# Altium schematic symbol library Schlib.SchLib: 39 symbols
Pins are listed as number, name and electrical type; pins without a type are passive.

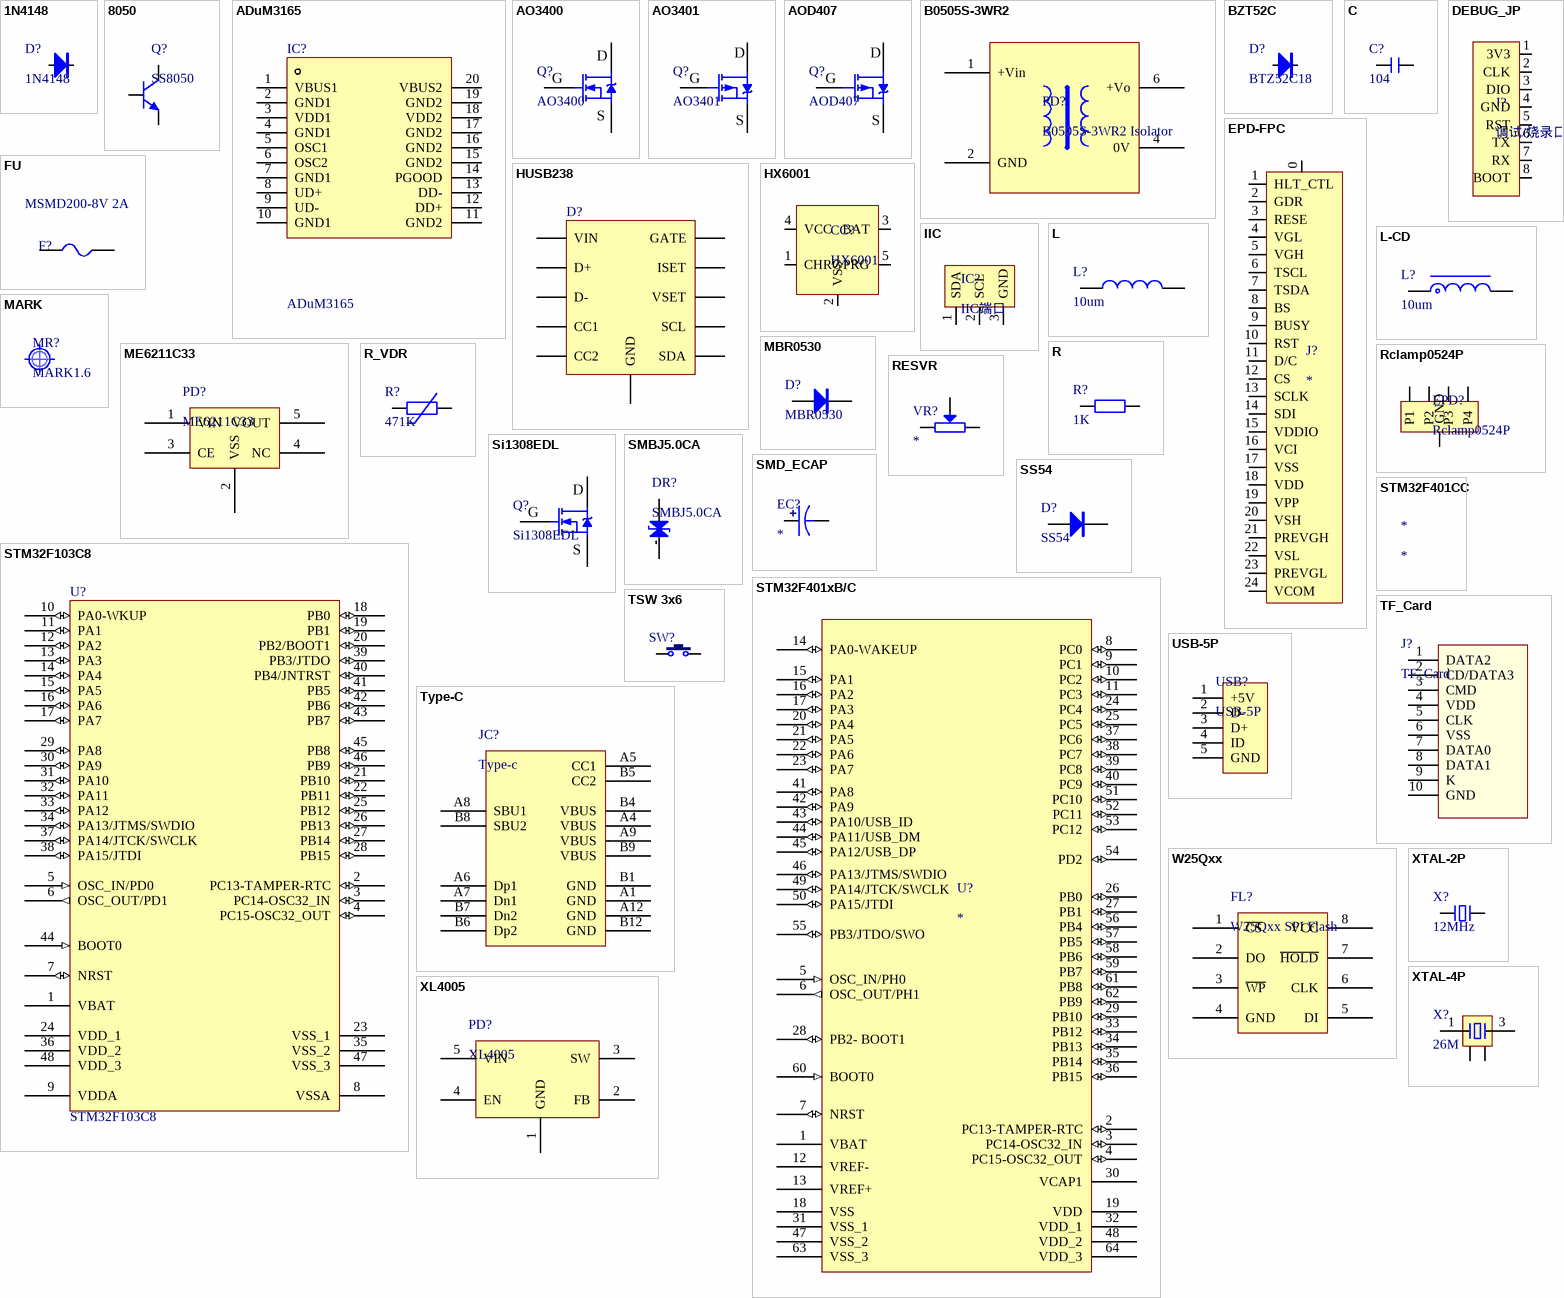
[diagram p0: symbols 1N4148 to XTAL-4P]

## 1N4148
designator D?
开关二极管; BOM名称: 肖特基二极管; 版权归属: 源创客; 属性: 40V/3A; 学习资源: www.ooocke.com
footprint SOD-123 (2.7x1.6X1.1mm（长宽高，不包括引脚）)
pins: 1 A, 2 K

## 8050
designator Q?, comment SS8050
高频放大三极管-NPN型; BOM名称: 高频放大-NPN型; 版权归属: 源创客; 属性: 40V 1.5A 1W 100MHZ; 学习资源: www.ooocke.com
footprint SOT23
pins: 1 B, 2 C, 3 E

## ADuM3165
designator IC?
3.75kV RMS Digital Isolators for USB2.0 High Speed
footprint SSOP20 (7.2*7.8*1.6mm（蒜米工坊）)
pins: 1 VBUS1, 2 GND1, 3 VDD1, 4 GND1, 5 OSC1, 6 OSC2, 7 GND1, 8 UD+, 9 UD-, 10 GND1, 11 GND2, 12 DD+, 13 DD-, 14 PGOOD, 15 GND2, 16 GND2, 17 GND2, 18 VDD2, 19 GND2, 20 VBUS2

## AO3400
designator Q?
N沟增强型道场效应管; BOM名称: N沟道场效应管; 版权归属: 源创客; 学习资源: www.ooocke.com
footprint SOT23 (Footprint not found)
pins: 1 G, 2 D, 3 S

## AO3401
designator Q?
P沟增强型场效应管; BOM名称: P沟场效应管; 版权归属: 源创客; 学习资源: www.ooocke.com
footprint SOT23
pins: 1 G, 2 D, 3 S

## AOD407
designator Q?
P沟增强型场效应管_60V12A_Vgs=20V; BOM名称: P沟场效应管; 版权归属: 源创客; 学习资源: www.ooocke.com
footprint TO252 (252晶体管)
pins: 1 G, 2 D, 3 S

## B0505S-3WR2
designator PD?, comment B0505S-3WR2 Isolator
K-CUT 05v - 05v power isolator
footprint B0505S-3WR2 K-CUT (power isolator module)
pins: 1 +Vin, 2 GND, 4 0V, 6 +Vo

## BZT52C
designator D?, comment BTZ52C18
稳压二极管; BOM名称: 肖特基二极管; 版权归属: 源创客; 属性: 40V/3A; 学习资源: www.ooocke.com
footprint SOD-123 (2.7x1.6X1.1mm（长宽高，不包括引脚）)
pins: 1 A, 2 K

## C
designator C?, comment 104
无极性贴片电容; 版权归属: 源创客; BOM名称: 无极性贴片电容; 学习资源: www.ooocke.com
footprint 0402
footprint 0603
footprint 0805
footprint 1206R
pins: 1, 2

## DEBUG_JP
designator J?, comment 调试/烧录口  (mechanical)
footprint DEBUG_JP (1.27mm间距)
pins: 1 3V3, 2 CLK, 3 DIO, 4 GND, 5 RST, 6 TX, 7 RX, 8 BOOT

## EPD-FPC
designator J?
footprint FPC0.5 2H-WS-24P (长：16.2mm，宽：5.2mm，高：2mm)
pins: 0, 1 HLT_CTL, 2 GDR, 3 RESE, 4 VGL, 5 VGH, 6 TSCL, 7 TSDA, 8 BS, 9 BUSY, 10 RST, 11 D/C, 12 CS, 13 SCLK, 14 SDI, 15 VDDIO, 16 VCI, 17 VSS, 18 VDD, 19 VPP, 20 VSH, 21 PREVGH, 22 VSL, 23 PREVGL, 24 VCOM

## FU
designator F?, comment MSMD200-8V 2A
贴片保险丝; 版权归属: 源创客; BOM名称: 贴片保险丝; 学习资源: www.ooocke.com
footprint FU 1206 (贴片保险丝)
pins: 1, 2

## HUSB238
designator D?  (value not drawn)
The HUSB238 is compatible with PD3.0 and Type-C / V1.4, and it can also support Apple Divider 3, BC1.2 / SDP, CDP and DCP while the source is attached.
footprint VDFN3X3-10L (3mm*3mm*0.5mm(长*宽*脚距）)
pins: 1 VIN, 2 D+, 3 D-, 4 CC1, 5 CC2, 6 SDA, 7 SCL, 8 VSET, 9 ISET, 10 GATE, 11 GND

## HX6001
designator CC?
HX6001(UN8HX)锂电池充电管理IC
footprint SOT23-5
pins: 1 CHRG, 2 VSS, 3 BAT, 4 VCC, 5 PRG

## IIC
designator IC?, comment IIC端口  (mechanical)
IIC端口，用于iic配置
footprint IIC_Port - duplicate (iic配置端口)
pins: 1 SDA, 2 SCL, 3 GND

## L
designator L?, comment 10um
小功率贴片电感; 版权归属: 源创客; BOM名称: 小功率贴片电感; 学习资源: www.ooocke.com
footprint 0402
footprint 0603
footprint 0805
pins: 1, 2

## L-CD
designator L?, comment 10um
贴片功率电感; BOM名称: 功率电感; 版权归属: 源创客; 学习资源: www.ooocke.com
footprint CD32 (3.5*3*2mm（长宽高）)
footprint CD42 (4.5*4*2mm（长宽高）)
footprint CDRH124 (12*12*4.5mm（长宽高）)
footprint CDRH125 (12*12*5mm（长宽高）)
footprint CDRH127 (12*12*8mm（长宽高）)
footprint CDRH129 (12*12*9.5mm（长宽高）)
footprint CD43 (4.5*4*3.2mm（长宽高）)
pins: 1, 2

## MARK
designator MR?, comment MARK1.6
光学定位点; 版权归属: 源创客; BOM名称: 光学定位点; 学习资源: www.ooocke.com
footprint Mark 1 (光学定位点，直径1mm)
footprint Mark 1.6 (光学定位点，直径1.6mm)

## MBR0530
designator D?
肖特基二极管; BOM名称: 整流二极管; 版权归属: 源创客; 学习资源: www.ooocke.com
footprint SOD-123 (2.7x1.6X1.1mm（长宽高，不包括引脚）)
pins: 1 A, 2 K

## ME6211C33
designator PD?
ME6211C33 3.3v线性LDO
footprint SOT23-5
pins: 1 VIN, 2 VSS, 3 CE, 4 NC, 5 VOUT

## R
designator R?, comment 1K
贴片电阻; 版权归属: 源创客; BOM名称: 贴片电阻; 学习资源: www.ooocke.com
footprint 0402
footprint 0603
footprint 0805
pins: 1, 2

## R_VDR
designator R?, comment 471K
压敏电阻; 版权归属: 源创客; BOM名称: 压敏电阻; 学习资源: www.ooocke.com
footprint 1206R
pins: 1, 2

## Rclamp0524P
designator EPD?
Rclamp0524P  Ultra Low Capacitance TVS Arrays
footprint SLP2510P8 (ESD TVS-Arrays Supplier specified)
pins: 1 P1, 2 P2, 3 GND, 4 P3, 5 P4

## RESVR
designator VR?
footprint 微调卧式蓝白电位器
footprint RM065 (蓝白可调电位器)
pins: 1, 2, 2

## Si1308EDL
designator Q?
N沟道场效应管; 版权归属: 源创客; BOM名称: N沟道场效应管; 学习资源: www.ooocke.com
footprint SOT323
pins: 1 S, 2 G, 3 D

## SMBJ5.0CA
designator DR?
瞬态电压抑制二极管; 版权归属: 源创客; BOM名称: 瞬态电压抑制二极管; 学习资源: www.ooocke.com
footprint SMB (4.7*3.9*2.2mm(长宽高，不包括引脚）)
pins: 1 A, 2 K

## SMD_ECAP
designator EC?
贴片电解电容
footprint SMD-EC3.0X3.3X5.4
footprint SMD-EC4.0X4.3X5.4
footprint SMD-EC5.0X5.3X5.4
footprint SMD-EC6.3X6.3X10
footprint SMD-EC8X8X10
footprint SMD-EC10X10X10
footprint SMD-EC-F12.5
footprint SMD-EC-F16
pins: 1, 2

## SS54
designator D?
肖特基二极管; BOM名称: 整流二极管; 版权归属: 源创客; 学习资源: www.ooocke.com
footprint SMA/DO-214AC (4.5x2.6*2.2mm（长宽高，不包括引脚）)
pins: 1 A, 2 K

## STM32F103C8
designator U?
Flaah:64/RAM:20/IO:36; BOM名称: 32位STM单片机; 版权归属: 源创客; 学习资源: www.ooocke.com
footprint LQFP48 7X7_N (48脚，体宽7x7mm，脚距0.5mm)
pins: 1 VBAT (power), 2 PC13-TAMPER-RTC (io), 3 PC14-OSC32_IN (io), 4 PC15-OSC32_OUT (io), 5 OSC_IN/PD0 (in), 6 OSC_OUT/PD1 (out), 7 NRST (io), 8 VSSA (power), 9 VDDA (power), 10 PA0-WKUP (io), 11 PA1 (io), 12 PA2 (io), 13 PA3 (io), 14 PA4 (io), 15 PA5 (io), 16 PA6 (io), 17 PA7 (io), 18 PB0 (io), 19 PB1 (io), 20 PB2/BOOT1 (io), 21 PB10 (io), 22 PB11 (io), 23 VSS_1 (power), 24 VDD_1 (power), 25 PB12 (io), 26 PB13 (io), 27 PB14 (io), 28 PB15 (io), 29 PA8 (io), 30 PA9 (io), 31 PA10 (io), 32 PA11 (io), 33 PA12 (io), 34 PA13/JTMS/SWDIO (io), 35 VSS_2 (power), 36 VDD_2 (power), 37 PA14/JTCK/SWCLK (io), 38 PA15/JTDI (io), 39 PB3/JTDO (io), 40 PB4/JNTRST (io), 41 PB5 (io), 42 PB6 (io), 43 PB7 (io), 44 BOOT0 (in), 45 PB8 (io), 46 PB9 (io), 47 VSS_3 (power), 48 VDD_3 (power)

## STM32F401CC
designator *

## STM32F401xB/C
designator U?
STM32F401xB/C 64pin
footprint LQFP64 10x10_N (64脚，体宽10x10mm，脚距0.5mm)
pins: 1 VBAT (power), 2 PC13-TAMPER-RTC (io), 3 PC14-OSC32_IN (io), 4 PC15-OSC32_OUT (io), 5 OSC_IN/PH0 (in), 6 OSC_OUT/PH1 (out), 7 NRST (io), 8 PC0 (io), 9 PC1 (io), 10 PC2 (io), 11 PC3 (io), 12 VREF- (power), 13 VREF+ (power), 14 PA0-WAKEUP (io), 15 PA1 (io), 16 PA2 (io), 17 PA3 (io), 18 VSS (power), 19 VDD (power), 20 PA4 (io), 21 PA5 (io), 22 PA6 (io), 23 PA7 (io), 24 PC4 (io), 25 PC5 (io), 26 PB0 (io), 27 PB1 (io), 28 PB2- BOOT1 (io), 29 PB10 (io), 30 VCAP1 (power), 31 VSS_1 (power), 32 VDD_1 (power), 33 PB12 (io), 34 PB13 (io), 35 PB14 (io), 36 PB15 (io), 37 PC6 (io), 38 PC7 (io), 39 PC8 (io), 40 PC9 (io), 41 PA8 (io), 42 PA9 (io), 43 PA10/USB_ID (io), 44 PA11/USB_DM (io), 45 PA12/USB_DP (io), 46 PA13/JTMS/SWDIO (io), 47 VSS_2 (power), 48 VDD_2 (power), 49 PA14/JTCK/SWCLK (io), 50 PA15/JTDI (io), 51 PC10 (io), 52 PC11 (io), 53 PC12 (io), 54 PD2 (io), 55 PB3/JTDO/SWO (io), 56 PB4 (io), 57 PB5 (io), 58 PB6 (io), 59 PB7 (io), 60 BOOT0 (in), 61 PB8 (io), 62 PB9 (io), 63 VSS_3 (power), 64 VDD_3 (power)

## TF_Card
designator J?
TF卡座; 版权归属: 源创客; BOM名称: TF卡座; 学习资源: www.ooocke.com
footprint Micro SD
pins: 1 DATA2, 2 CD/DATA3, 3 CMD, 4 VDD, 5 CLK, 6 VSS, 7 DATA0, 8 DATA1, 9 K, 10 GND

## TSW 3x6
designator SW?, comment 3x6x5  (value not drawn)
3x6轻触开关; 版权归属: 源创客; BOM名称: 3x6轻触开关; 学习资源: www.ooocke.com
footprint TSW SMD-3*6*2.5 (3*6*2.5mm)
pins: 1, 2

## Type-C
designator JC?, comment Type-c
footprint TYPE-C-SMD_TYPE-C-31-M-41 (HANDE TYPE-C 16P)
pins: A1 GND, A4 VBUS, A5 CC1, A6 Dp1, A7 Dn1, A8 SBU1, A9 VBUS, A12 GND, B1 GND, B4 VBUS, B5 CC2, B6 Dp2, B7 Dn2, B8 SBU2, B9 VBUS, B12 GND

## USB-5P
designator USB?
微型USB母座; 版权归属: 源创客; BOM名称: 微型USB母座; 学习资源: www.ooocke.com
footprint USB-MICRO_E (贴片无柱micro母座)
pins: 1 +5V, 2 D-, 3 D+, 4 ID, 5 GND

## W25Qxx
designator FL?, comment W25Qxx SPI Flash
W25Qxx SPI Flash,容量小于128Mbit
footprint SOP8_N (5*6*1.8mm（长宽高）)
footprint SOP8W_N (5.3*8.3*1.8mm（长宽高）)
pins: 1 ~{CS}, 2 DO, 3 ~{WP}, 4 GND, 5 DI, 6 CLK, 7 ~{HOLD}, 8 VCC

## XL4005
designator PD?
XL4005降压型DC-DC转换器(BUCK电路)，开关频率300kHz
footprint TO263-5A (263，5脚晶体管)
pins: 1 GND, 2 FB, 3 SW, 4 EN, 5 VIN

## XTAL-2P
designator X?, comment 12MHz
2脚无源脚晶振; 版权归属: 源创客; BOM名称: 2脚无源脚晶振; 学习资源: www.ooocke.com
footprint OSC 3215-2P (3.2*1.5*0.6mm(长宽高))
pins: 1, 2

## XTAL-4P
designator X?, comment 26M
4脚无源晶振; 版权归属: 源创客; BOM名称: 4脚无源晶振; 学习资源: www.ooocke.com
footprint OSC 3225-4P (3.2*2.5*0.7mm(长宽高))
pins: 1, 2, 3, 4